# EAGLE library part C-TEENSY++ (library CMU-ArtFab)
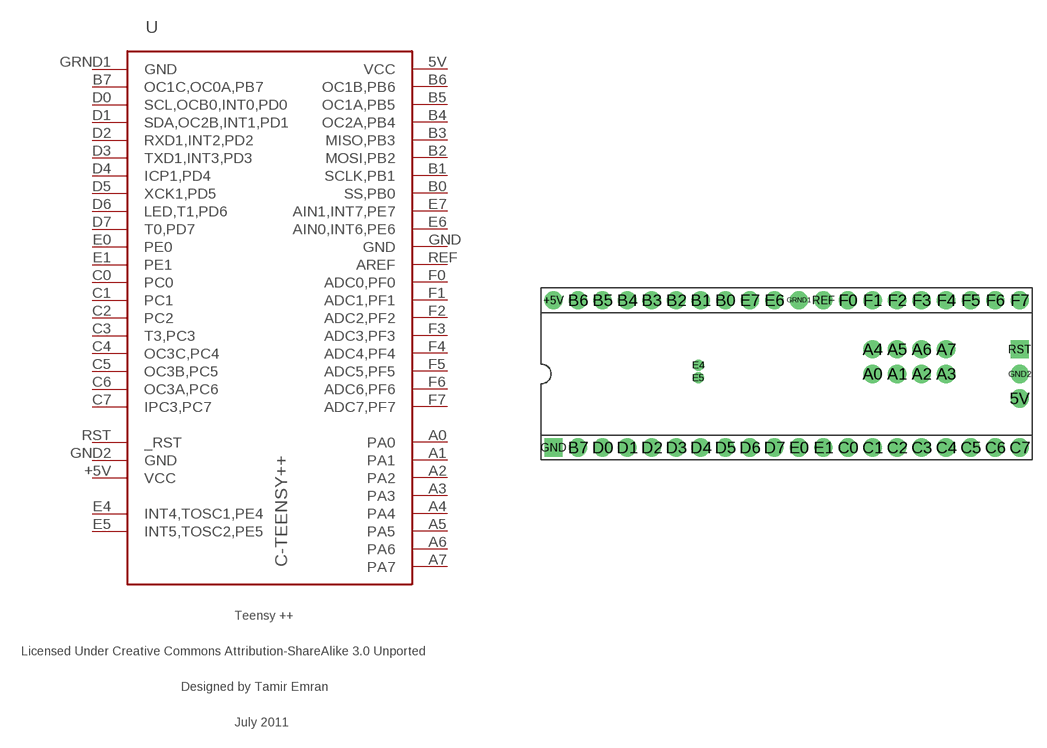
[diagram p10: symbol with the pads of TEENSY++; footprint TEENSY++]

Designator prefix -

## C-TEENSY++  [TEENSY++]
5V  VCC  pwr
+5V  VCC  pwr
A0  PA0
A1  PA1
A2  PA2
A3  PA3
A4  PA4
A5  PA5
A6  PA6
A7  PA7
B0  SS,PB0
B1  SCLK,PB1
B2  MOSI,PB2
B3  MISO,PB3
B4  OC2A,PB4
B5  OC1A,PB5
B6  OC1B,PB6
B7  OC1C,OC0A,PB7
C0  PC0
C1  PC1
C2  PC2
C3  T3,PC3
C4  OC3C,PC4
C5  OC3B,PC5
C6  OC3A,PC6
C7  IPC3,PC7
D0  SCL,OCB0,INT0,PD0
D1  SDA,OC2B,INT1,PD1
D2  RXD1,INT2,PD2
D3  TXD1,INT3,PD3
D4  ICP1,PD4
D5  XCK1,PD5
D6  LED,T1,PD6
D7  T0,PD7
E0  PE0
E1  PE1
E4  INT4,TOSC1,PE4
E5  INT5,TOSC2,PE5
E6  AIN0,INT6,PE6
E7  AIN1,INT7,PE7
F0  ADC0,PF0
F1  ADC1,PF1
F2  ADC2,PF2
F3  ADC3,PF3
F4  ADC4,PF4
F5  ADC5,PF5
F6  ADC6,PF6
F7  ADC7,PF7
GND  GND  pwr
GND2  GND  pwr
GRND1  GND  pwr
REF  AREF  in
RST  _RST  in

## Footprint TEENSY++ (pad centres in mm)
teensy ++
drill 1.016 pad 1.88: 5V 24.13,-2.54; +5V -24.13,7.62; A0 8.89,0; A1 11.43,0; A2 13.97,0; A3 16.51,0; A4 8.89,2.54; A5 11.43,2.54; A6 13.97,2.54; A7 16.51,2.54; B0 -6.35,7.62; B1 -8.89,7.62; B2 -11.43,7.62; B3 -13.97,7.62; B4 -16.51,7.62; B5 -19.05,7.62; B6 -21.59,7.62; B7 -21.59,-7.62; C0 6.35,-7.62; C1 8.89,-7.62; C2 11.43,-7.62; C3 13.97,-7.62; C4 16.51,-7.62; C5 19.05,-7.62; C6 21.59,-7.62; C7 24.13,-7.62; D0 -19.05,-7.62; D1 -16.51,-7.62; D2 -13.97,-7.62; D3 -11.43,-7.62; D4 -8.89,-7.62; D5 -6.35,-7.62; D6 -3.81,-7.62; D7 -1.27,-7.62; E0 1.27,-7.62; E1 3.81,-7.62; E6 -1.27,7.62; E7 -3.81,7.62; F0 6.35,7.62; F1 8.89,7.62; F2 11.43,7.62; F3 13.97,7.62; F4 16.51,7.62; F5 19.05,7.62; F6 21.59,7.62; F7 24.13,7.62; GND2 24.13,0; GRND1 1.27,7.62; REF 3.81,7.62
drill 0.635 pad 1.067: E4 -9.144,0.914; E5 -9.144,-0.406
drill 1.016 pad 1.88 square: GND -24.13,-7.62; RST 24.13,2.54